# Altium footprint library 0805USB.PcbLib: 1 footprints
Each footprint in its own frame and in the unit in brackets; x right, y up, seen from the top. Pads: shape width x height; smd on the part's side, far side on the other; paste and mask are expansions set on the pad; w line width, h text height; cw(c..) or ccw(c..) is an arc to the next point about the centre after c.
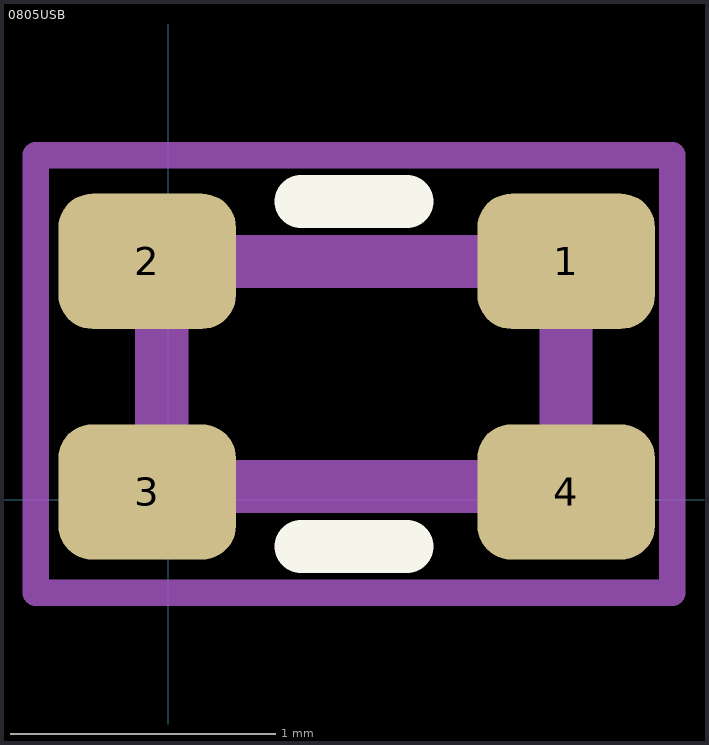
[diagram p0: the footprint, top view; thin cyan lines are the x and y axes]

## 0805USB [mm]
pads (4):
  rrect50% 0.67x0.51 smd mask+0: 1(1.5,0.9) 2(-0.08,0.9) 3(-0.08,0.03) 4(1.5,0.03)
Top Overlay:
  lines w0.2: 0.5,-0.175 0.9,-0.175 ; 0.5,1.125 0.9,1.125
Mechanical 3:
  lines w0.2: -0.025,0.05 1.5,0.05 1.5,0.725 1.325,0.9 -0.025,0.9 -0.025,0.35 -0.025,0.05
Mechanical 7:
  lines w0.1: -0.5,-0.35 1.4,-0.35 1.9,-0.35 1.9,1.3 -0.5,1.3 -0.5,-0.35
Mechanical 9:
  text "'.Designator'" at -7.97,0.217 h1.02
3D body "Coilcraft-0805USB.STEP": height 1.66, standoff 0.01, extent -0.31,-0.175 1.71,1.115
3D body: height 1.65, standoff 0, extent -0.5,-0.35 1.9,1.3